# Altium footprint library CRYSTAL.PcbLib: 3 footprints
Each footprint in its own frame and in the unit in brackets; x right, y up, seen from the top. Pads: shape width x height; smd on the part's side, far side on the other; paste and mask are expansions set on the pad; w line width, h text height; cw(c..) or ccw(c..) is an arc to the next point about the centre after c.
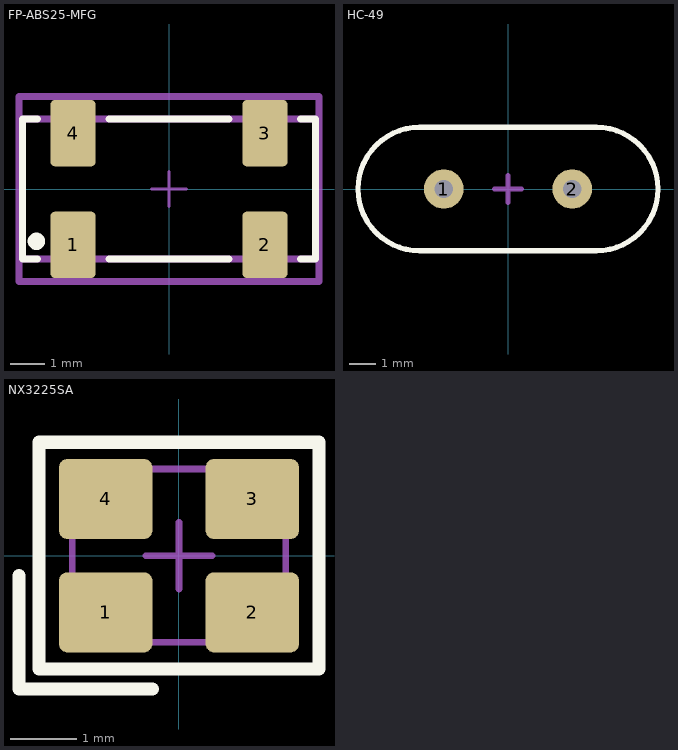
[diagram p0: the footprints below, top view; thin cyan lines are the x and y axes]

## FP-ABS25-MFG [mm]
height 0.89
pads (4):
  rrect20% 1.3x1.9 smd paste+0 mask+0.05: 1(-2.75,-1.6) 2(2.75,-1.6) 3(2.75,1.6) 4(-2.75,1.6)
Top Overlay:
  circle w0.25: c-3.8,-1.5 r0.125
  lines w0.2: -3.775,-2 -4.2,-2 -4.2,2 -3.775,2 ; -1.725,-2 1.725,-2 ; -1.725,2 1.725,2 ; 3.775,-2 4.2,-2 4.2,2 3.775,2
Top Assembly:
  lines w0.2: -4.3,-2.65 4.3,-2.65 4.3,2.65 -4.3,2.65 -4.3,-2.65 ; -4.2,-2 4.2,-2 4.2,2 -4.2,2 -4.2,-2
Top Courtyard:
  lines w0.05: -4.3,-2.65 4.3,-2.65 4.3,2.65 -4.3,2.65 -4.3,-2.65
Top Component Center:
  lines w0.1: -0.5,0 0.5,0 ; 0,-0.5 0,0.5
3D body "Crys_Abracon_ABS25-100_000KHZ-T_eec.STEP": height 0.25, standoff 0, extent -4.3,-2.65 4.3,2.65

## HC-49 [mm]
pads (2):
  round 1.5 hole 0.7 mask+0.05: 1(-2.44,0) 2(2.44,0)
Top Overlay:
  lines w0.2: -3.35,-2.35 cw(c-3.35,0) -3.35,2.35 3.35,2.35 cw(c3.35,0) 3.35,-2.35 -3.35,-2.35
Top Component Center:
  lines w0.2: -0.5,0 0.5,0 ; 0,-0.5 0,0.5

## NX3225SA [mm] "4 Pad  Version 3.2x2.5mm"
height 1
pads (4):
  rrect20% 1.4x1.2 smd mask+0.05: 1(-1.1,-0.85) 2(1.1,-0.85) 3(1.1,0.85) 4(-1.1,0.85)
Top Overlay:
  lines w0.2: -2.4,-0.3 -2.4,-2 -0.4,-2 ; -2.1,-1.7 -2.1,1.7 2.1,1.7 2.1,-1.7 -2.1,-1.7
Top Assembly:
  lines w0.1: -1.6,-1.3 -1.6,1.3 1.6,1.3 1.6,-1.3 -1.6,-1.3
Top 3D Body:
  circle w0.1: c-1,-0.8 r0.25
Top Courtyard:
  lines w0.05: -2.1,-1.75 2.1,-1.75 2.1,1.75 -2.1,1.75 -2.1,-1.75
Top Component Center:
  lines w0.1: -0.5,0 0.5,0 ; 0,-0.5 0,0.5
3D body "Crys_NDK_NX3225SA-25_000M-STD-CRS-2_eec.STEP": height 0.6, standoff 0, extent -1.6,-1.25 1.6,1.25